# Altium footprint library SamacSys.PcbLib: 6 footprints
Each footprint in its own frame and in the unit in brackets; x right, y up, seen from the top. Pads: shape width x height; smd on the part's side, far side on the other; paste and mask are expansions set on the pad; w line width, h text height; cw(c..) or ccw(c..) is an arc to the next point about the centre after c.
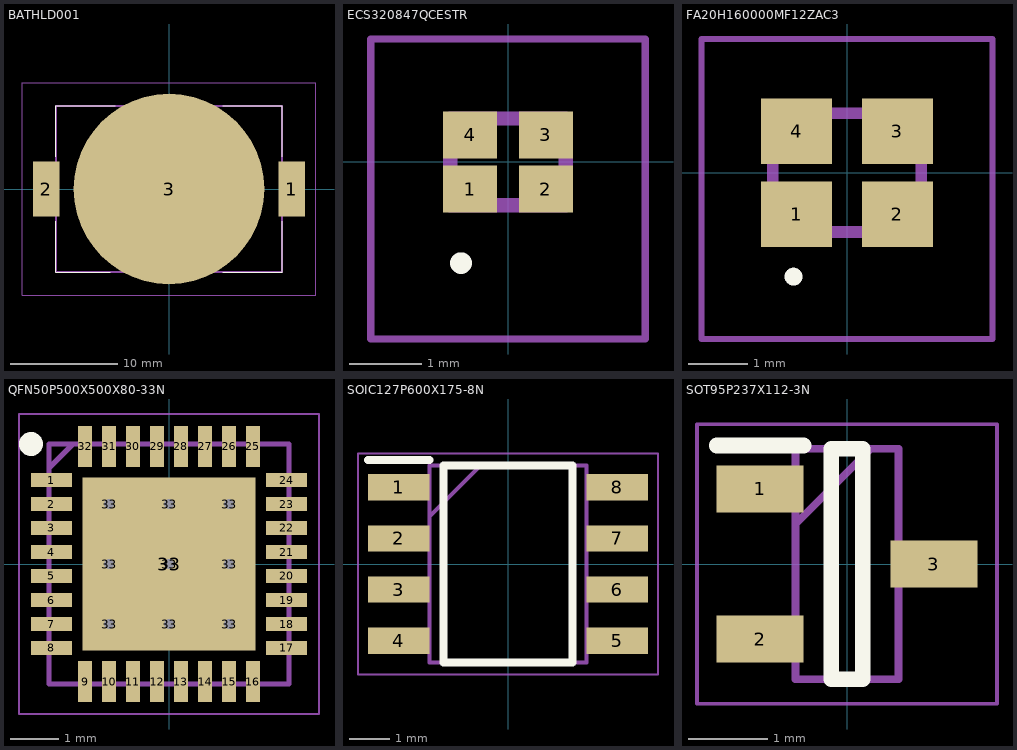
[diagram p0: the footprints below, top view; thin cyan lines are the x and y axes]

## BATHLD001 [mm]
pads (3):
  rect 2.5x5.1 smd: 1(11.45,0) 2(-11.45,0)
  round 17.8 smd: 3(0,0)
Top Overlay:
  lines w0.1: -10.55,-3 -10.55,-7.75 -5.5,-7.75 ; -10.55,3 -10.55,7.75 -5,7.75 ; 5,-7.75 10.55,-7.75 10.55,-3 ; 5,7.75 10.55,7.75 10.55,3
Mechanical 13:
  lines w0.2: -10.55,-7.75 10.55,-7.75 10.55,7.75 -10.55,7.75 -10.55,-7.75
Mechanical 15:
  lines w0.1: -13.7,-9.9 13.7,-9.9 13.7,9.9 -13.7,9.9 -13.7,-9.9
3D body "BAT-HLD-001.stp": height 4.1, standoff 0, extent -12.45,-8.897 12.45,8.897

## ECS320847QCESTR [mm]
pads (4):
  rect 0.75x0.65 smd: 1(-0.525,-0.375) 2(0.525,-0.375) 3(0.525,0.375) 4(-0.525,0.375)
Top Overlay:
  lines w0.2: -0.7,-1.4 ccw(c-0.65,-1.4) -0.6,-1.4 ; -0.7,-1.4 cw(c-0.65,-1.4) -0.6,-1.4 ; -0.7,-1.4 ccw(c-0.65,-1.4) -0.6,-1.4
Mechanical 13:
  lines w0.2: -0.8,-0.6 -0.8,0.6 0.8,0.6 0.8,-0.6 -0.8,-0.6
Mechanical 15:
  lines w0.1: -1.9,-2.45 -1.9,1.7 1.9,1.7 1.9,-2.45 -1.9,-2.45
3D body "ECS-320-8-47Q-CES-TR.stp": height 0.5, standoff 0, extent -0.835,-0.635 0.835,0.635

## FA20H160000MF12ZAC3 [mm]
pads (4):
  rect 1.2x1.1 smd: 1(-0.85,-0.7) 2(0.85,-0.7) 3(0.85,0.7) 4(-0.85,0.7)
Top Overlay:
  lines w0.2: -0.9,-1.8 ccw(c-0.9,-1.75) -0.9,-1.7 ; -0.9,-1.8 cw(c-0.9,-1.75) -0.9,-1.7 ; -0.9,-1.8 ccw(c-0.9,-1.75) -0.9,-1.7
Mechanical 13:
  lines w0.2: -1.25,-1 1.25,-1 1.25,1 -1.25,1 -1.25,-1
Mechanical 15:
  lines w0.1: -2.45,-2.8 2.45,-2.8 2.45,2.25 -2.45,2.25 -2.45,-2.8
3D body "FA-20H_32.0000MF20X-K5.stp": height 0.65, standoff 0, extent -1.34,-1.14 1.34,1.14

## QFN50P500X500X80-33N [mm]
pads (42):
  rect 0.85x0.3 smd: 1(-2.45,1.75) 2(-2.45,1.25) 3(-2.45,0.75) 4(-2.45,0.25) 5(-2.45,-0.25) 6(-2.45,-0.75) 7(-2.45,-1.25) 8(-2.45,-1.75) 17(2.45,-1.75) 18(2.45,-1.25) 19(2.45,-0.75) 20(2.45,-0.25) 21(2.45,0.25) 22(2.45,0.75) 23(2.45,1.25) 24(2.45,1.75)
  rect 0.3x0.85 smd: 9(-1.75,-2.45) 10(-1.25,-2.45) 11(-0.75,-2.45) 12(-0.25,-2.45) 13(0.25,-2.45) 14(0.75,-2.45) 15(1.25,-2.45) 16(1.75,-2.45) 25(1.75,2.45) 26(1.25,2.45) 27(0.75,2.45) 28(0.25,2.45) 29(-0.25,2.45) 30(-0.75,2.45) 31(-1.25,2.45) 32(-1.75,2.45)
  round 0.4 hole 0.2: 33(-1.25,-1.25) 33(-1.25,0) 33(-1.25,1.25) 33(0,-1.25) 33(0,0) 33(0,1.25) 33(1.25,-1.25) 33(1.25,0) 33(1.25,1.25)
  rect 3.6x3.6 smd: 33(0,0)
Top Overlay:
  circle w0.25: c-2.875,2.5 r0.125
Mechanical 13:
  lines w0.1: -2.5,2 -2,2.5 ; -2.5,-2.5 -2.5,2.5 2.5,2.5 2.5,-2.5 -2.5,-2.5
Mechanical 15:
  lines w0.05: -3.125,-3.125 -3.125,3.125 3.125,3.125 3.125,-3.125 -3.125,-3.125
3D body "NRF52810-QCAA-T.stp": height 0.8, standoff 0, extent -2.55,-2.55 2.55,2.55

## SOIC127P600X175-8N [mm]
pads (8):
  rect 1.525x0.65 smd: 1(-2.712,1.905) 2(-2.712,0.635) 3(-2.712,-0.635) 4(-2.712,-1.905) 5(2.712,-1.905) 6(2.712,-0.635) 7(2.712,0.635) 8(2.712,1.905)
Top Overlay:
  lines w0.2: -3.475,2.58 -1.95,2.58 ; -1.6,-2.45 -1.6,2.45 1.6,2.45 1.6,-2.45 -1.6,-2.45
Mechanical 13:
  lines w0.1: -1.95,1.18 -0.68,2.45 ; -1.95,-2.45 -1.95,2.45 1.95,2.45 1.95,-2.45 -1.95,-2.45
Mechanical 15:
  lines w0.05: -3.725,-2.75 -3.725,2.75 3.725,2.75 3.725,-2.75 -3.725,-2.75
3D body "NE555DR.stp": height 1.75, standoff 0, extent -3,-2.45 3,2.45

## SOT95P237X112-3N [mm]
pads (3):
  rect 1.1x0.6 smd: 1(-1.1,0.95) 2(-1.1,-0.95) 3(1.1,0)
Top Overlay:
  lines w0.2: -1.65,1.5 -0.55,1.5 ; -0.2,-1.46 -0.2,1.46 0.2,1.46 0.2,-1.46 -0.2,-1.46
Mechanical 13:
  lines w0.1: -0.65,0.51 0.3,1.46 ; -0.65,-1.46 -0.65,1.46 0.65,1.46 0.65,-1.46 -0.65,-1.46
Mechanical 15:
  lines w0.05: -1.9,-1.77 -1.9,1.77 1.9,1.77 1.9,-1.77 -1.9,-1.77
3D body "ISL21080CIH315Z-TK.stp": height 1.12, standoff 0, extent -1.185,-1.46 1.185,1.46